# EAGLE library part PHOTODIODE,HAMAMATSU_S874X-01 (library QuantumOptics)
Amplified photodiode, Hamamatsu S8746-01
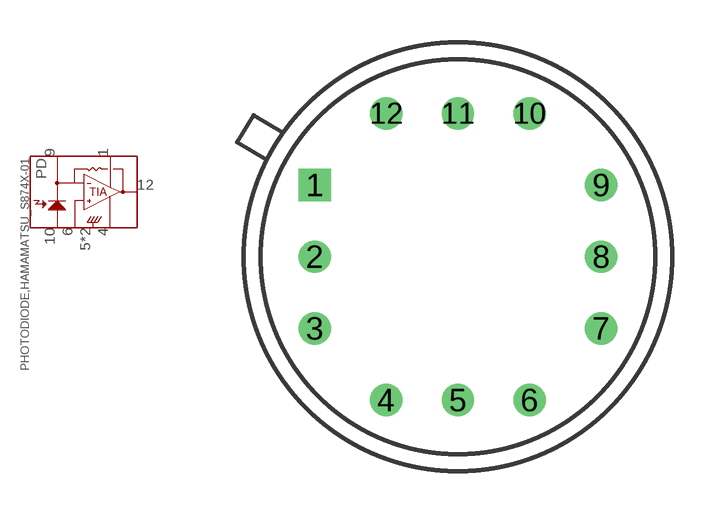
[diagram p202: symbol with the pads of TO-8; footprint TO-8]

Designator prefix PD

## PHOTODIODE,HAMAMATSU_S874X-01-S8746-01(TO-8)  [TO-8]
1  VCC+
4  VCC-
5  CASE  out
6  IN+  in
9  FB
10  PD_COM  in
11  CASE  out
12  OUT  out

## Footprint TO-8 (pad centres in mm)
TO-8, throughhole, from Hamamatsu and ROM, such as the PD S8746-01.
drill 0.635 square: 1 -5.08,2.54
drill 0.635: 2 -5.08,0; 3 -5.08,-2.54; 4 -2.54,-5.08; 5 0,-5.08; 6 2.54,-5.08; 7 5.08,-2.54; 8 5.08,0; 9 5.08,2.54; 10 2.54,5.08; 11 0,5.08; 12 -2.54,5.08